# Altium footprint library CAPRadial-7mm.PcbLib: 1 footprints
Each footprint in its own frame and in the unit in brackets; x right, y up, seen from the top. Pads: shape width x height; smd on the part's side, far side on the other; paste and mask are expansions set on the pad; w line width, h text height; cw(c..) or ccw(c..) is an arc to the next point about the centre after c.
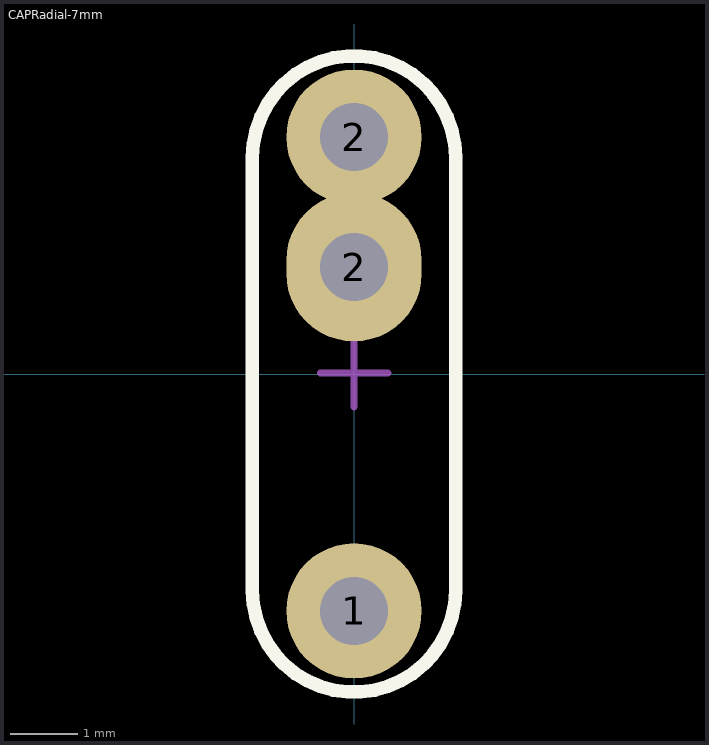
[diagram p0: the footprint, top view; thin cyan lines are the x and y axes]

## CAPRadial-7mm [mm]
pads (3):
  round 2 hole 1: 1(0,-3.5) 2(0,3.5)
  oval 2x2.2 hole 1: 2(0,1.58)
Top Overlay:
  lines w0.2: -1.5,-3.2 ccw(c0,-3.2) 1.5,-3.2 1.5,3.2 ccw(c0,3.2) -1.5,3.2 -1.5,-3.2
Mechanical 8:
  lines w0.1: -0.5,-3.5 0,-3.5 ; -0.5,3.5 0,3.5 ; -0.499,0.013 0.001,0.013 ; 0,-4 0,-3.5 ; 0,-3 0,-3.5 ; 0,3 0,3.5 ; 0,4 0,3.5 ; 0.001,-0.487 0.001,0.013 ; 0.001,0.513 0.001,0.013 ; 0.5,-3.5 0,-3.5 ; 0.5,3.5 0,3.5 ; 0.501,0.013 0.001,0.013
Mechanical 14:
  lines w0.1: -1.5,-3.2 ccw(c0,-3.2) 1.5,-3.2 1.5,3.2 ccw(c0,3.2) -1.5,3.2 -1.5,-3.2
3D body "Ceramic Cap, 5mm lead spacing, 4mm width, and 5.5mm tall, v4.step": height 6, standoff -1.3, extent -1.204,-3.875 1.25,1.775